# Altium integrated library ARDUINO-UNO.IntLib: 23 symbols
Pins are listed as number, name and electrical type; pins without a type are passive.

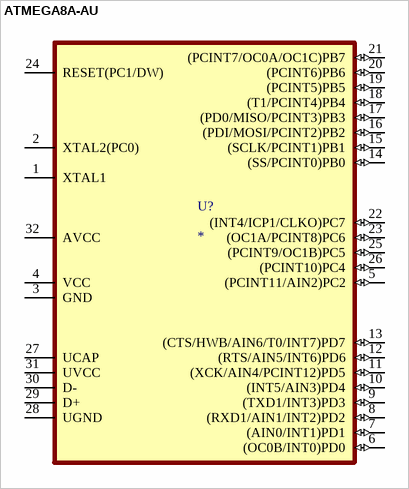
[diagram p0: symbol ATMEGA8A-AU]

## ATMEGA8A-AU
designator U?
AVR AVRÂ® ATmega Microcontroller IC 8-Bit 16MHz 8KB (4K x 16) FLASH 32-TQFP (7x7); MF: Microchip Technology; MP: ATMEGA8A-AU; SnapEDA_Link: https://www.snapeda.com/parts/ATMEGA8A-AU/Microchip/view-part/?ref=snap; Package: TQFP-32 Microchip Technology; Value: *; Check_prices: https://www.snapeda.com/parts/ATMEGA8A-AU/Microchip/view-part/?ref=eda
footprint QFP80P900X900X120-32N
pins: 1 XTAL1 (power), 2 XTAL2(PC0), 3 GND (power), 4 VCC (power), 5 (PCINT11/AIN2)PC2 (io), 6 (OC0B/INT0)PD0 (io), 7 (AIN0/INT1)PD1 (io), 8 (RXD1/AIN1/INT2)PD2 (io), 9 (TXD1/INT3)PD3 (io), 10 (INT5/AIN3)PD4 (io), 11 (XCK/AIN4/PCINT12)PD5 (io), 12 (RTS/AIN5/INT6)PD6 (io), 13 (CTS/HWB/AIN6/T0/INT7)PD7 (io), 14 (SS/PCINT0)PB0 (io), 15 (SCLK/PCINT1)PB1 (io), 16 (PDI/MOSI/PCINT2)PB2 (io), 17 (PD0/MISO/PCINT3)PB3 (io), 18 (T1/PCINT4)PB4 (io), 19 (PCINT5)PB5 (io), 20 (PCINT6)PB6 (io), 21 (PCINT7/OC0A/OC1C)PB7 (io), 22 (INT4/ICP1/CLKO)PC7 (io), 23 (OC1A/PCINT8)PC6 (io), 24 RESET(PC1/DW) (power), 25 (PCINT9/OC1B)PC5 (io), 26 (PCINT10)PC4 (io), 27 UCAP, 28 UGND (power), 29 D+, 30 D-, 31 UVCC, 32 AVCC (power)


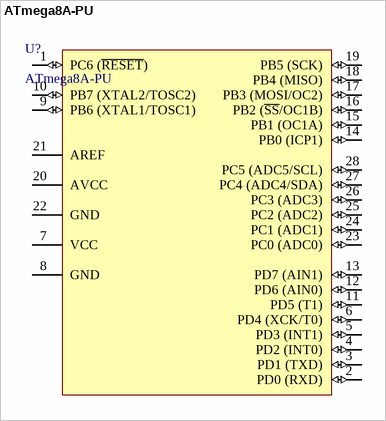
[diagram p1: symbol ATmega8A-PU]

## ATmega8A-PU
designator U?
footprint ATmega8A-PU 28P3
pins: 1 PC6 (~{RESET}) (io), 2 PD0 (RXD) (io), 3 PD1 (TXD) (io), 4 PD2 (INT0) (io), 5 PD3 (INT1) (io), 6 PD4 (XCK/T0) (io), 7 VCC (power), 8 GND (power), 9 PB6 (XTAL1/TOSC1) (io), 10 PB7 (XTAL2/TOSC2) (io), 11 PD5 (T1) (io), 12 PD6 (AIN0) (io), 13 PD7 (AIN1) (io), 14 PB0 (ICP1) (io), 15 PB1 (OC1A) (io), 16 PB2 (~{SS}/OC1B) (io), 17 PB3 (MOSI/OC2) (io), 18 PB4 (MISO) (io), 19 PB5 (SCK) (io), 20 AVCC (power), 21 AREF, 22 GND (power), 23 PC0 (ADC0) (io), 24 PC1 (ADC1) (io), 25 PC2 (ADC2) (io), 26 PC3 (ADC3) (io), 27 PC4 (ADC4/SDA) (io), 28 PC5 (ADC5/SCL) (io)


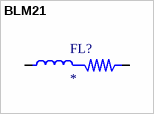
[diagram p2: symbol BLM21]

## BLM21
designator FL?
MP: BLM21SP111SH1D; Package: None; Price: None; Value: *; Availability: Unavailable
footprint BEADC2012X105N
pins: 1, 2


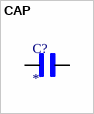
[diagram p3: symbol CAP]

## CAP
designator C?
CAP CER 2.2UF 35V X6S 0805; MP: GRT21BC8YA225KE13L; Package: None; Price: None; Value: *; Availability: Unavailable
footprint CAPC2012X135N
pins: 1, 2


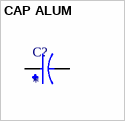
[diagram p4: symbol CAP ALUM]

## CAP ALUM
designator C?
Capacitor; Alum Electrolytic; Cap 1000 uF; Tol 20%; Vol-Rtg 6.3 VDC; SMT; 10x10.2; TR; MP: EEE-HA0J102AP; MF: Panasonic; Value: *; SnapEDA_Link: https://www.snapeda.com/parts/EEE-HA0J102AP/Panasonic/view-part/1658041/?ref=snap; Availability: In Stock; Package: RADIAL-2 Panasonic; Price: None; Check_prices: https://www.snapeda.com/parts/EEE-HA0J102AP/Panasonic/view-part/1658041/?ref=eda
footprint CAP_EEEHA0J102AP
pins: 1, 2


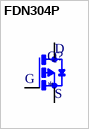
[diagram p5: symbol FDN304P]

## FDN304P
designator Q?
P-Channel 20 V 2.4A (Ta) 500mW (Ta) Surface Mount SOT-23-3; MF: onsemi; MP: FDN304P; SnapEDA_Link: https://www.snapeda.com/parts/FDN304P/Onsemi/view-part/?ref=snap; Package: SOT-23-3 ON Semiconductor; Value: *; Check_prices: https://www.snapeda.com/parts/FDN304P/Onsemi/view-part/?ref=eda
footprint SSOT-3
pins: 1 G, 2 S, 3 D


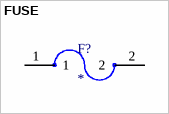
[diagram p6: symbol FUSE]

## FUSE
designator F?
Polymeric PTC Resettable Fuse 15V 500 mA Ih Surface Mount 1812 (4532 Metric), Concave; MP: MF-MSMF050-2; MF: Bourns; Availability: In Stock; Check_prices: https://www.snapeda.com/parts/MF-MSMF050-2/Bourns+-+J.W.+Miller/view-part/?ref=eda; Price: None; Package: 1812 Bourns; Purchase-URL: https://pricing.snapeda.com/search/part/MF-MSMF050-2/?ref=eda; Value: *; SnapEDA_Link: https://www.snapeda.com/parts/MF-MSMF050-2/Bourns+-+J.W.+Miller/view-part/?ref=snap
footprint FUSM4632X85
pins: 1, 2


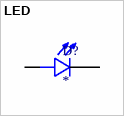
[diagram p7: symbol LED]

## LED
designator D?
Red - LED Indication - Discrete 1.7V 0805 (2012 Metric); MF: VCC; MP: 7012X1; Package: 0805 Visual Communications; Purchase-URL: https://pricing.snapeda.com/search/part/7012X1/?ref=eda; Value: *; Availability: In Stock; SnapEDA_Link: https://www.snapeda.com/parts/7012X1/Visual+Communications/view-part/?ref=snap; Price: None; Check_prices: https://www.snapeda.com/parts/7012X1/Visual+Communications/view-part/?ref=eda
footprint LED_7012X1
pins: A, C


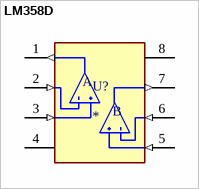
[diagram p8: symbol LM358D]

## LM358D
designator U?
Op Amp Dual Low Power Amplifier Â±15V/30V 8-Pin SO N Tube; MF: STMicroelectronics; MP: LM358D; SnapEDA_Link: https://www.snapeda.com/parts/LM358D/STMicroelectronics/view-part/?ref=snap; Package: None; Value: *; Check_prices: https://www.snapeda.com/parts/LM358D/STMicroelectronics/view-part/?ref=eda
footprint SOIC127P599X175-8N
pins: 1 OUT1 (out), 2 IN1- (in), 3 IN1+ (in), 4 V- (power), 5 IN2+ (in), 6 IN2- (in), 7 OUT2 (out), 8 V+ (power)
text: A; B


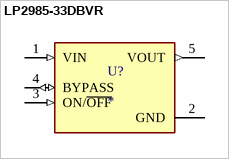
[diagram p9: symbol LP2985-33DBVR]

## LP2985-33DBVR
designator U?
150-mA, 16-V, low-dropout voltage regulator with enable; MF: Texas Instruments; MP: LP2985-33DBVR; SnapEDA_Link: https://www.snapeda.com/parts/LP2985-33DBVR/Texas+Instruments/view-part/?ref=snap; Package: SOT-23-5 Texas Instruments; Value: *; Check_prices: https://www.snapeda.com/parts/LP2985-33DBVR/Texas+Instruments/view-part/?ref=eda
footprint SOT95P280X145-5N
pins: 1 VIN (in), 2 GND (power), 3 ON/~{OFF} (in), 4 BYPASS (io), 5 VOUT (out)


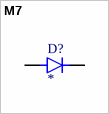
[diagram p10: symbol M7]

## M7
designator D?
Diode Standard 400 V 3A Surface Mount SMB; MP: S3GB-13; MF: Diodes Inc.; Package: DO-214 Diodes Inc.; Purchase-URL: https://pricing.snapeda.com/search/part/S3GB-13/?ref=eda; Value: *; Digi-Key_Part_Number: S3GBDITR-ND; SnapEDA_Link: https://www.snapeda.com/parts/S3GB-13/Diodes+Inc./view-part/?ref=snap; Check_prices: https://www.snapeda.com/parts/S3GB-13/Diodes+Inc./view-part/?ref=eda
footprint DIOM4336X265N
pins: A, C K


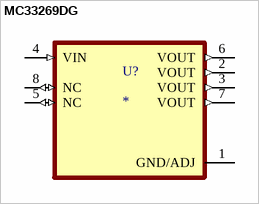
[diagram p11: symbol MC33269DG]

## MC33269DG
designator U?
Linear Voltage Regulator IC Positive Adjustable 1 Output 800mA 8-SOIC; MF: ON Semiconductor; MP: MC33269DG; SnapEDA_Link: https://www.snapeda.com/parts/MC33269DG/Onsemi/view-part/?ref=snap; Package: SOIC-8 ON Semiconductor; Value: *; Check_prices: https://www.snapeda.com/parts/MC33269DG/Onsemi/view-part/?ref=eda
footprint SOIC127P600X175-8N
pins: 1 GND/ADJ (power), 2 VOUT (out), 3 VOUT (out), 4 VIN (in), 5 NC (io), 6 VOUT (out), 7 VOUT (out), 8 NC (io)


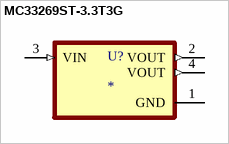
[diagram p12: symbol MC33269ST-3.3T3G]

## MC33269ST-3.3T3G
designator U?
Voltage Regulators, LDO, 3.3V ADJ 800mA | ON Semiconductor MC33269ST-3.3T3G; SnapEDA_Link: https://www.snapeda.com/parts/MC33269ST-3.3T3G/Onsemi/view-part/?ref=snap; Package: SOT-223-4 ON Semiconductor; Value: *; MF: ON Semiconductor; MP: MC33269ST-3.3T3G; Check_prices: https://www.snapeda.com/parts/MC33269ST-3.3T3G/Onsemi/view-part/?ref=eda
footprint SOT230P700X175-4N
pins: 1 GND (power), 2 VOUT (out), 3 VIN (in), 4 VOUT (out)


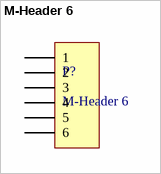
[diagram p13: symbol M-Header 6]

## M-Header 6
designator P?
footprint M-Header 6
pins: 1, 2, 3, 4, 5, 6


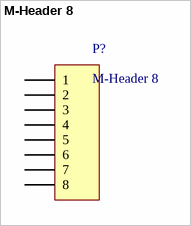
[diagram p14: symbol M-Header 8]

## M-Header 8
designator P?
footprint M-Header 8
pins: 1, 2, 3, 4, 5, 6, 7, 8


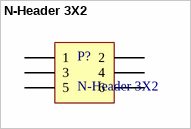
[diagram p15: symbol N-Header 3X2]

## N-Header 3X2
designator P?
footprint N-Header 3X2
pins: 1, 2, 3, 4, 5, 6


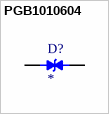
[diagram p16: symbol PGB1010604]

## PGB1010604
designator D?
150V (Typ) Clamp - Ipp Tvs Diode Surface Mount 0603 (1608 Metric); MF: Littelfuse Inc.; MP: PGB1010603MR; SnapEDA_Link: https://www.snapeda.com/parts/PGB1010603MR/Littelfuse/view-part/?ref=snap; Package: 0603 Littelfuse Inc.; Value: *; Check_prices: https://www.snapeda.com/parts/PGB1010603MR/Littelfuse/view-part/?ref=eda
footprint DIOC1608X36N
pins: 1, 2


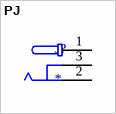
[diagram p17: symbol PJ]

## PJ
designator J?
Power Barrel Connector Jack 2.10mm ID (0.083), 5.50mm OD (0.217) Through Hole, Right Angle; MF: MPD; MP: EJ503A; Package: None; Price: None; Check_prices: https://www.snapeda.com/parts/EJ503A/MPD+%2528Memory+Protection+Devices%2529/view-part/?ref=eda; Value: *; SnapEDA_Link: https://www.snapeda.com/parts/EJ503A/MPD+%2528Memory+Protection+Devices%2529/view-part/?ref=snap; Availability: In Stock; Purchase-URL: https://pricing.snapeda.com/search?q=EJ503A&ref=eda
footprint MPD_EJ503A
pins: 1, 2, 3


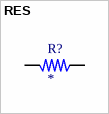
[diagram p18: symbol RES]

## RES
designator R?
CR0805 SMD Thick Film Resistor,1 Kilohms,Pwr-Rtg 0.125 W,Tol 1%,SMT | Bourns CR0805-FX-1001ELF; SnapEDA_Link: https://www.snapeda.com/parts/CR0805-FX-1001ELF/Bourns/view-part/?ref=snap; Package: 0805 Bourns; Value: *; MF: Bourns; MP: CR0805-FX-1001ELF; Check_prices: https://www.snapeda.com/parts/CR0805-FX-1001ELF/Bourns/view-part/?ref=eda
footprint RESC2012X60N
pins: 1, 2


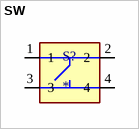
[diagram p19: symbol SW]

## SW
designator S?
Switch Tactile N.O. SPST Button Gull Wing 0.05A 12VDC 0.98N SMD T/R; MP: SKQGAFE010; MF: ALPS; Price: None; Availability: In Stock; Package: None; Value: *; Purchase-URL: https://pricing.snapeda.com/search/part/SKQGAFE010/?ref=eda
footprint SW_SKQGAFE010
pins: 1, 2, 3, 4


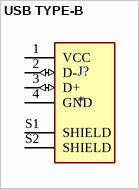
[diagram p20: symbol USB TYPE-B]

## USB TYPE-B
designator J?
USB-B (USB TYPE-B) USB 2.0 Receptacle Connector 4 Position Through Hole, Right Angle; MF: Samtec; MP: USB-B-S-F-W-TH-TR; SnapEDA_Link: https://www.snapeda.com/parts/USB-B-S-F-W-TH-TR/Samtec/view-part/?ref=snap; Package: None; Value: *; Check_prices: https://www.snapeda.com/parts/USB-B-S-F-W-TH-TR/Samtec/view-part/?ref=eda
footprint SAMTEC_USB-B-S-X-X-TH
pins: 1 VCC (power), 2 D- (io), 3 D+ (io), 4 GND (power), S1 SHIELD, S2 SHIELD


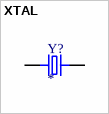
[diagram p21: symbol XTAL]

## XTAL
designator Y?
16 MHz Â±30ppm Crystal Series 40 Ohms HC-49/US; MF: ECS Inc.; MP: ECS-160-S-5PX-TR; SnapEDA_Link: https://www.snapeda.com/parts/ECS-160-S-5PX-TR/ECS/view-part/?ref=snap; Package: CSM-7X-3L-5G3X-2 ECS; Value: *; Check_prices: https://www.snapeda.com/parts/ECS-160-S-5PX-TR/ECS/view-part/?ref=eda
footprint XTAL_ECS-160-S-5PX-TR
pins: 1, 2


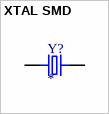
[diagram p22: symbol XTAL SMD]

## XTAL SMD
designator Y?
16 MHz Â±30ppm Crystal Series 60 Ohms 2-SMD, No Lead; MF: ECS Inc.; MP: ECS-160-S-23A-EN-TR; SnapEDA_Link: https://www.snapeda.com/parts/ECS-160-S-23A-EN-TR/ECS/view-part/?ref=snap; Package: SMD ECS International; Value: *; Check_prices: https://www.snapeda.com/parts/ECS-160-S-23A-EN-TR/ECS/view-part/?ref=eda
footprint XTAL_ECS-160-S-23A-EN-TR
pins: 1 IN/OUT, 2 OUT/IN